# EAGLE library part 4002N (library EW_IC_74_Logic)
4-input Nor. Category: Gates Manufacturer: Generic
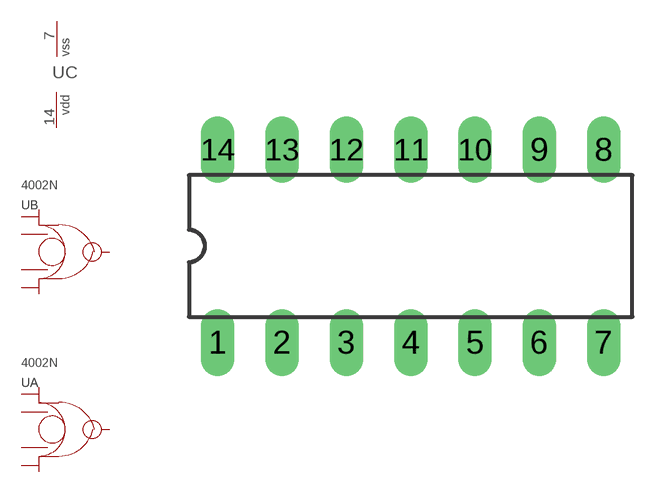
[diagram p336: symbol with the pads of DIL14; footprint DIL14]

Designator prefix U; gates A=NOR_4 B=NOR_4 C=PWRN_1

## 4002N  [DIL14]
1  A:Y  pwr
2  A:A  pwr
3  A:B  pwr
4  A:C  pwr
5  A:D  pwr
7  C:VSS  pwr
9  B:A  pwr
10  B:B  pwr
11  B:C  pwr
12  B:D  pwr
13  B:Y  pwr
14  C:VDD  pwr

## Footprint DIL14 (pad centres in mm)
SOCKET Dual In Line
drill 0.813 long: 1 -7.62,-3.81; 2 -5.08,-3.81; 3 -2.54,-3.81; 4 0,-3.81; 5 2.54,-3.81; 6 5.08,-3.81; 7 7.62,-3.81; 8 7.62,3.81; 9 5.08,3.81; 10 2.54,3.81; 11 0,3.81; 12 -2.54,3.81; 13 -5.08,3.81; 14 -7.62,3.81